# EAGLE library part MBED-NUCLEO-F401RE-ARDUINO (library mbed-nucleo)
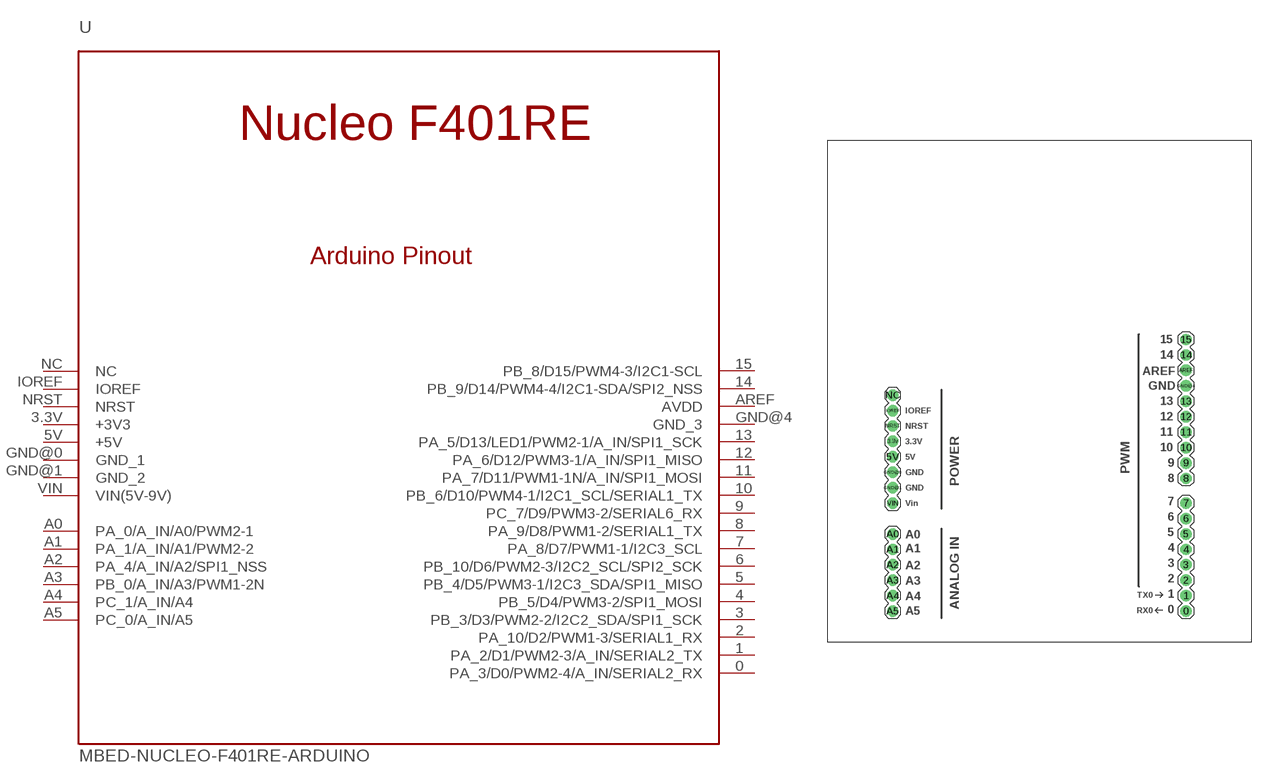
[diagram p1: symbol with the pads of ARDUINO-HEADERS; footprint ARDUINO-HEADERS]

Designator prefix -

## MBED-NUCLEO-F401RE-ARDUINO  [ARDUINO-HEADERS]
0  PA_3/D0/PWM2-4/A_IN/SERIAL2_RX
1  PA_2/D1/PWM2-3/A_IN/SERIAL2_TX
2  PA_10/D2/PWM1-3/SERIAL1_RX
3  PB_3/D3/PWM2-2/I2C2_SDA/SPI1_SCK
3.3V  +3V3
4  PB_5/D4/PWM3-2/SPI1_MOSI
5  PB_4/D5/PWM3-1/I2C3_SDA/SPI1_MISO
5V  +5V
6  PB_10/D6/PWM2-3/I2C2_SCL/SPI2_SCK
7  PA_8/D7/PWM1-1/I2C3_SCL
8  PA_9/D8/PWM1-2/SERIAL1_TX
9  PC_7/D9/PWM3-2/SERIAL6_RX
10  PB_6/D10/PWM4-1/I2C1_SCL/SERIAL1_TX
11  PA_7/D11/PWM1-1N/A_IN/SPI1_MOSI
12  PA_6/D12/PWM3-1/A_IN/SPI1_MISO
13  PA_5/D13/LED1/PWM2-1/A_IN/SPI1_SCK
14  PB_9/D14/PWM4-4/I2C1-SDA/SPI2_NSS
15  PB_8/D15/PWM4-3/I2C1-SCL
A0  PA_0/A_IN/A0/PWM2-1
A1  PA_1/A_IN/A1/PWM2-2
A2  PA_4/A_IN/A2/SPI1_NSS
A3  PB_0/A_IN/A3/PWM1-2N
A4  PC_1/A_IN/A4
A5  PC_0/A_IN/A5
AREF  AVDD
GND@0  GND_1
GND@1  GND_2
GND@4  GND_3
IOREF  IOREF
NC  NC
NRST  NRST
VIN  VIN(5V-9V)

## Footprint ARDUINO-HEADERS (pad centres in mm)
drill 1.016 pad 1.88: 0 24.13,-29.21; 1 24.13,-26.67; 2 24.13,-24.13; 3 24.13,-21.59; 3.3V -24.13,-1.27; 4 24.13,-19.05; 5 24.13,-16.51; 5V -24.13,-3.81; 6 24.13,-13.97; 7 24.13,-11.43; 8 24.13,-7.366; 9 24.13,-4.826; 10 24.13,-2.286; 11 24.13,0.254; 12 24.13,2.794; 13 24.13,5.334; 14 24.13,12.954; 15 24.13,15.494; A0 -24.13,-16.51; A1 -24.13,-19.05; A2 -24.13,-21.59; A3 -24.13,-24.13; A4 -24.13,-26.67; A5 -24.13,-29.21; AREF 24.13,10.414; GND@0 -24.13,-6.35; GND@1 -24.13,-8.89; GND@4 24.13,7.874; IOREF -24.13,3.81; NC -24.13,6.35; NRST -24.13,1.27; VIN -24.13,-11.43